# EAGLE library part FSA2467 (library GW-devices)
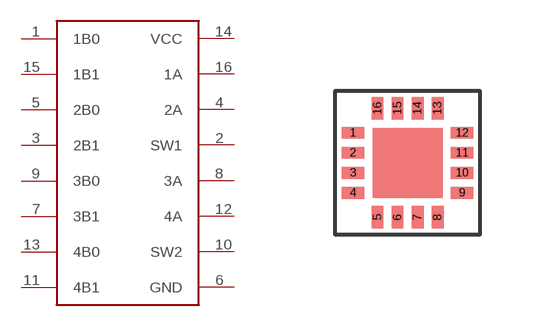
[diagram p25: symbol with the pads of MO-220; footprint MO-220]

Designator prefix -

## FSA2467MPX  [MO-220]
1  1B0
2  SW1
3  2B1
4  2A
5  2B0
6  GND
7  3B1
8  3A
9  3B0
10  SW2
11  4B1
12  4A
13  4B0
14  VCC
15  1B1
16  1A

## Footprint MO-220 (pad centres in mm)
smd 0.57 x 0.3: 1 -1.365,0.75; 2 -1.365,0.25; 3 -1.365,-0.25; 4 -1.365,-0.75; 9 1.365,-0.75; 10 1.365,-0.25; 11 1.365,0.25; 12 1.365,0.75
smd 0.3 x 0.57: 5 -0.75,-1.365; 6 -0.25,-1.365; 7 0.25,-1.365; 8 0.75,-1.365; 13 0.75,1.365; 14 0.25,1.365; 15 -0.25,1.365; 16 -0.75,1.365